# Altium footprint library IHLP4040DZ_2.PcbLib: 1 footprints
Each footprint in its own frame and in the unit in brackets; x right, y up, seen from the top. Pads: shape width x height; smd on the part's side, far side on the other; paste and mask are expansions set on the pad; w line width, h text height; cw(c..) or ccw(c..) is an arc to the next point about the centre after c.
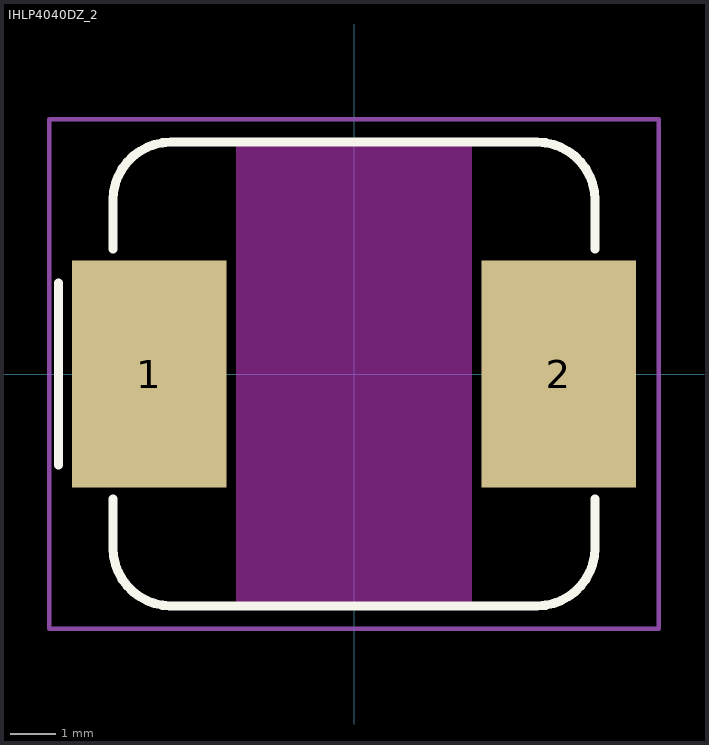
[diagram p0: the footprint, top view; thin cyan lines are the x and y axes]

## IHLP4040DZ_2 [mm]
pads (2):
  rect 3.4x5 smd: 1(-4.5,0) 2(4.5,0)
Top Layer keep-out:
  rectangle: -2.6,-5.1 2.6,5.1
Top Overlay:
  lines w0.2: -6.5,-2 -6.5,2 ; -5.3,-2.75 -5.3,-3.83 ccw(c-4.03,-3.83) -4.03,-5.1 ; -5.3,2.75 -5.3,3.83 cw(c-4.03,3.83) -4.03,5.1 4.03,5.1 cw(c4.03,3.83) 5.3,3.83 5.3,2.75 ; -4.055,-5.1 4.03,-5.1 ccw(c4.03,-3.83) 5.3,-3.83 5.3,-2.75
Top Courtyard:
  lines w0.1: -6.7,-5.6 -4.03,-5.6 6.7,-5.6 6.7,5.6 -6.7,5.6 -6.7,-5.6
3D body "IHLP4040DZ (.22-1.5uH).STEP": height 3.88, standoff 0, extent -5.371,-5.105 5.353,5.111